# Altium footprint library Tibbo.PcbLib: 1 footprints
Each footprint in its own frame and in the unit in brackets; x right, y up, seen from the top. Pads: shape width x height; smd on the part's side, far side on the other; paste and mask are expansions set on the pad; w line width, h text height; cw(c..) or ccw(c..) is an arc to the next point about the centre after c.
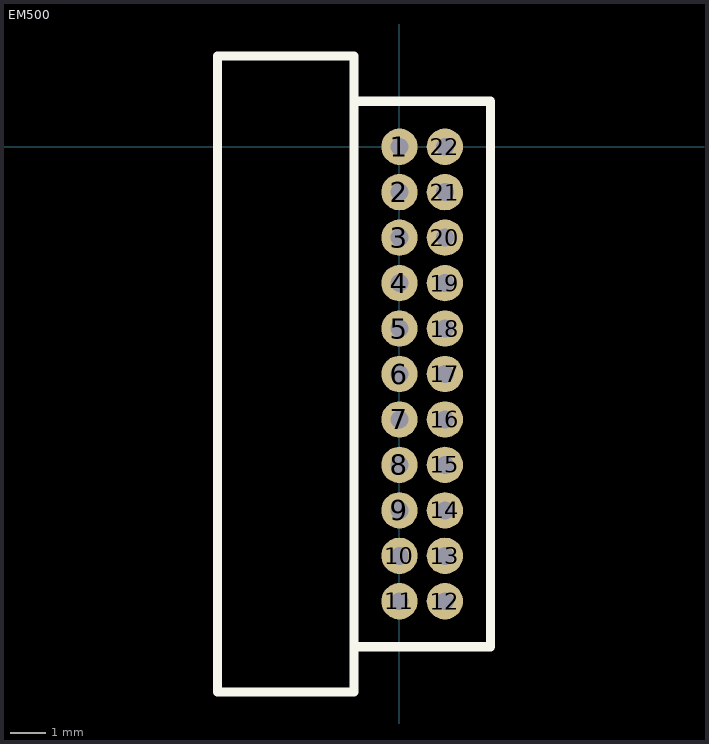
[diagram p0: the footprint, top view; thin cyan lines are the x and y axes]

## EM500 [mil] "EM500 BASIC-programmable Ethernet Module"
height 96.46
pads (22):
  round 40 hole 19.68: 1(0,0) 2(0,-50) 3(0,-100) 4(0,-150) 5(0,-200) 6(0,-250) 7(0,-300) 8(0,-350) 9(0,-400) 10(0,-450) 11(0,-500) 12(50,-500) 13(50,-450) 14(50,-400) 15(50,-350) 16(50,-300) 17(50,-250) 18(50,-200) 19(50,-150) 20(50,-100) 21(50,-50) 22(50,0)
Top Overlay:
  lines w10: -50,-550 100,-550 100,50 50,50 -50,50 ; -200,-600 -50,-600 -50,100 -200,100 -200,-600